# Altium integrated library abracon.IntLib: 1 symbol
Pins are listed as number, name and electrical type; pins without a type are passive.

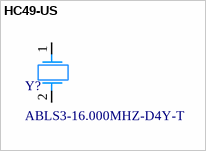
[diagram p0: symbol HC49-US]

## HC49-US
designator Y?, comment ABLS3-16.000MHZ-D4Y-T
ABLS3-16.000MHZ-D4Y-T 16MHz crystal 18pF  40mohm
footprint HC49-US (Low profile SMD crystal, 2-Leads, Body 4.70x11.40mm, Pitch 9.80mm, IPC High Density)
pins: 1, 2